# Altium integrated library Aryalib.IntLib: 119 symbols
Pins are listed as number, name and electrical type; pins without a type are passive.

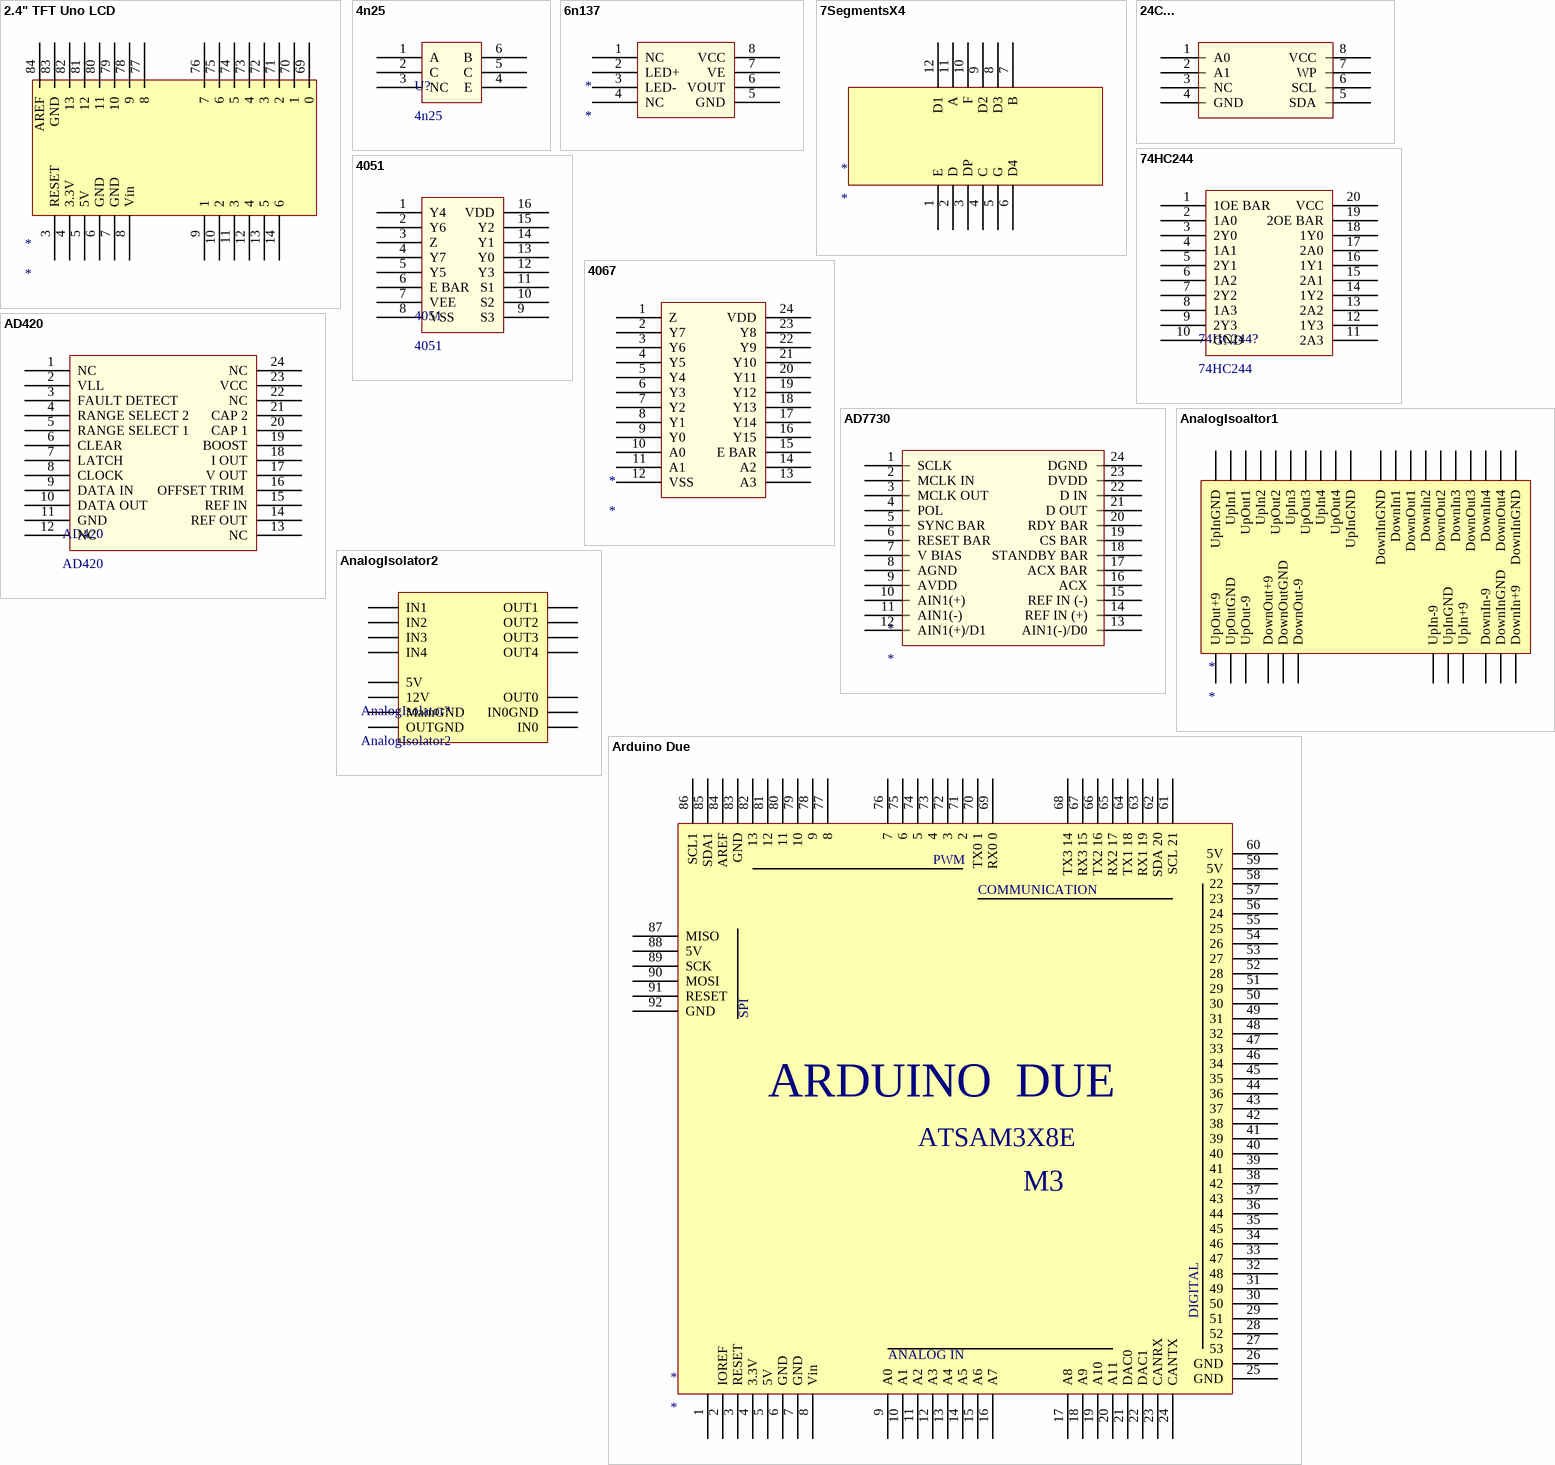
[diagram p0: symbols 2.4" TFT Uno LCD to Arduino Due]

## 2.4" TFT Uno LCD
designator *
footprint 2.4" TFT UNO LCD
pins: 3 RESET, 4 3.3V, 5 5V, 6 GND, 7 GND, 8 Vin, 9 1, 10 2, 11 3, 12 4, 13 5, 14 6, 69 0, 70 1, 71 2, 72 3, 73 4, 74 5, 75 6, 76 7, 77 8, 78 9, 79 10, 80 11, 81 12, 82 13, 83 GND, 84 AREF

## 4n25
designator U?
footprint PDIP6
pins: 1 A, 2 C, 3 NC, 4 E, 5 C, 6 B

## 6n137
designator *
footprint PDIP 8
pins: 1 NC, 2 LED+, 3 LED-, 4 NC, 5 GND, 6 VOUT, 7 VE, 8 VCC

## 7SegmentsX4
designator *
footprint 7SegmentsX4
pins: 1 E, 2 D, 3 DP, 4 C, 5 G, 6 D4, 7 B, 8 D3, 9 D2, 10 F, 11 A, 12 D1

## 24C...
designator ?  (value not drawn)
footprint SOIC 8
footprint PDIP 8
pins: 1 A0, 2 A1, 3 NC, 4 GND, 5 SDA, 6 SCL, 7 WP, 8 VCC

## 74HC244
designator 74HC244?
footprint PDIP 20
pins: 1 1OE BAR, 2 1A0, 3 2Y0, 4 1A1, 5 2Y1, 6 1A2, 7 2Y2, 8 1A3, 9 2Y3, 10 GND, 11 2A3, 12 1Y3, 13 2A2, 14 1Y2, 15 2A1, 16 1Y1, 17 2A0, 18 1Y0, 19 2OE BAR, 20 VCC

## 4051
designator 4051
footprint PDIP 16
pins: 1 Y4, 2 Y6, 3 Z, 4 Y7, 5 Y5, 6 E BAR, 7 VEE, 8 VSS, 9 S3, 10 S2, 11 S1, 12 Y3, 13 Y0, 14 Y1, 15 Y2, 16 VDD

## 4067
designator *
footprint PDIP 24 FAT
pins: 1 Z, 2 Y7, 3 Y6, 4 Y5, 5 Y4, 6 Y3, 7 Y2, 8 Y1, 9 Y0, 10 A0, 11 A1, 12 VSS, 13 A3, 14 A2, 15 E BAR, 16 Y15, 17 Y14, 18 Y13, 19 Y12, 20 Y11, 21 Y10, 22 Y9, 23 Y8, 24 VDD

## AD420
designator AD420
footprint PDIP 24
pins: 1 NC, 2 VLL, 3 FAULT DETECT, 4 RANGE SELECT 2, 5 RANGE SELECT 1, 6 CLEAR, 7 LATCH, 8 CLOCK, 9 DATA IN, 10 DATA OUT, 11 GND, 12 NC, 13 NC, 14 REF OUT, 15 REF IN, 16 OFFSET TRIM , 17 V OUT, 18 I OUT, 19 BOOST, 20 CAP 1, 21 CAP 2, 22 NC, 23 VCC, 24 NC

## AD7730
designator *
footprint PDIP 24
pins: 1 SCLK, 2 MCLK IN, 3 MCLK OUT, 4 POL, 5 SYNC BAR, 6 RESET BAR, 7 V BIAS, 8 AGND, 9 AVDD, 10 AIN1(+), 11 AIN1(-), 12 AIN1(+)/D1, 13 AIN1(-)/D0, 14 REF IN (+), 15 REF IN (-), 16 ACX, 17 ACX BAR, 18 STANDBY BAR, 19 CS BAR, 20 RDY BAR, 21 D OUT, 22 D IN, 23 DVDD, 24 DGND

## AnalogIsoaltor1
designator *
footprint AnalogIsolator1
pins: 1 UpInGND, 2 UpIn1, 3 UpOut1, 4 UpIn2, 5 UpOut2, 6 UpIn3, 7 UpOut3, 8 UpIn4, 9 UpOut4, 10 UpInGND, 11 DownInGND, 12 DownIn1, 13 DownOut1, 14 DownIn2, 15 DownOut2, 16 DownIn3, 17 DownOut3, 18 DownIn4, 19 DownOut4, 20 DownInGND, 21 UpOut+9, 22 UpOutGND, 23 UpOut-9, 24 DownOut+9, 25 DownOutGND, 26 DownOut-9, 27 UpIn-9, 28 UpInGND, 29 UpIn+9, 30 DownIn-9, 31 DownInGND, 32 DownIn+9

## AnalogIsolator2
designator AnalogIsolator?
footprint AnalogIsolator2
pins: 1 IN1, 2 OUT1, 3 IN2, 4 OUT2, 5 IN3, 6 OUT3, 7 IN4, 8 OUT4, 9 5V, 10 12V, 11 MainGND, 12 OUTGND, 25 OUT0, 26 IN0GND, 27 IN0

## Arduino Due
designator *
footprint ARDUINO DUE 1
footprint ARDUINO DUE 2
pins: 1, 2 IOREF, 3 RESET, 4 3.3V, 5 5V, 6 GND, 7 GND, 8 Vin, 9 A0, 10 A1, 11 A2, 12 A3, 13 A4, 14 A5, 15 A6, 16 A7, 17 A8, 18 A9, 19 A10, 20 A11, 21 DAC0, 22 DAC1, 23 CANRX, 24 CANTX, 25 GND, 26 GND, 27 53, 28 52, 29 51, 30 50, 31 49, 32 48, 33 47, 34 46, 35 45, 36 44, 37 43, 38 42, 39 41, 40, 41 39, 42 38, 43 37, 44 36, 45 35, 46 34, 47 33, 48 32, 49 31, 50 30, 51 29, 52 28, 53 27, 54 26, 55 25, 56 24, 57 23, 58 22, 59 5V, 60 5V, 61 SCL 21, 62 SDA 20, 63 RX1 19, 64 TX1 18, 65 RX2 17, 66 TX2 16, 67 RX3 15, 68 TX3 14, 69 RX0 0, 70 TX0 1, 71 2, 72 3, 73 4, 74 5, 75 6, 76 7, 77 8, 78 9, 79 10, 80 11, 81 12, 82 13, 83 GND, 84 AREF, 85 SDA1, 86 SCL1, 87 MISO, 88 5V, 89 SCK, 90 MOSI, 91 RESET, 92 GND
text: PWM; COMMUNICATION; SPI; ARDUINO  DUE; ATSAM3X8E; M3; DIGITAL; ANALOG IN

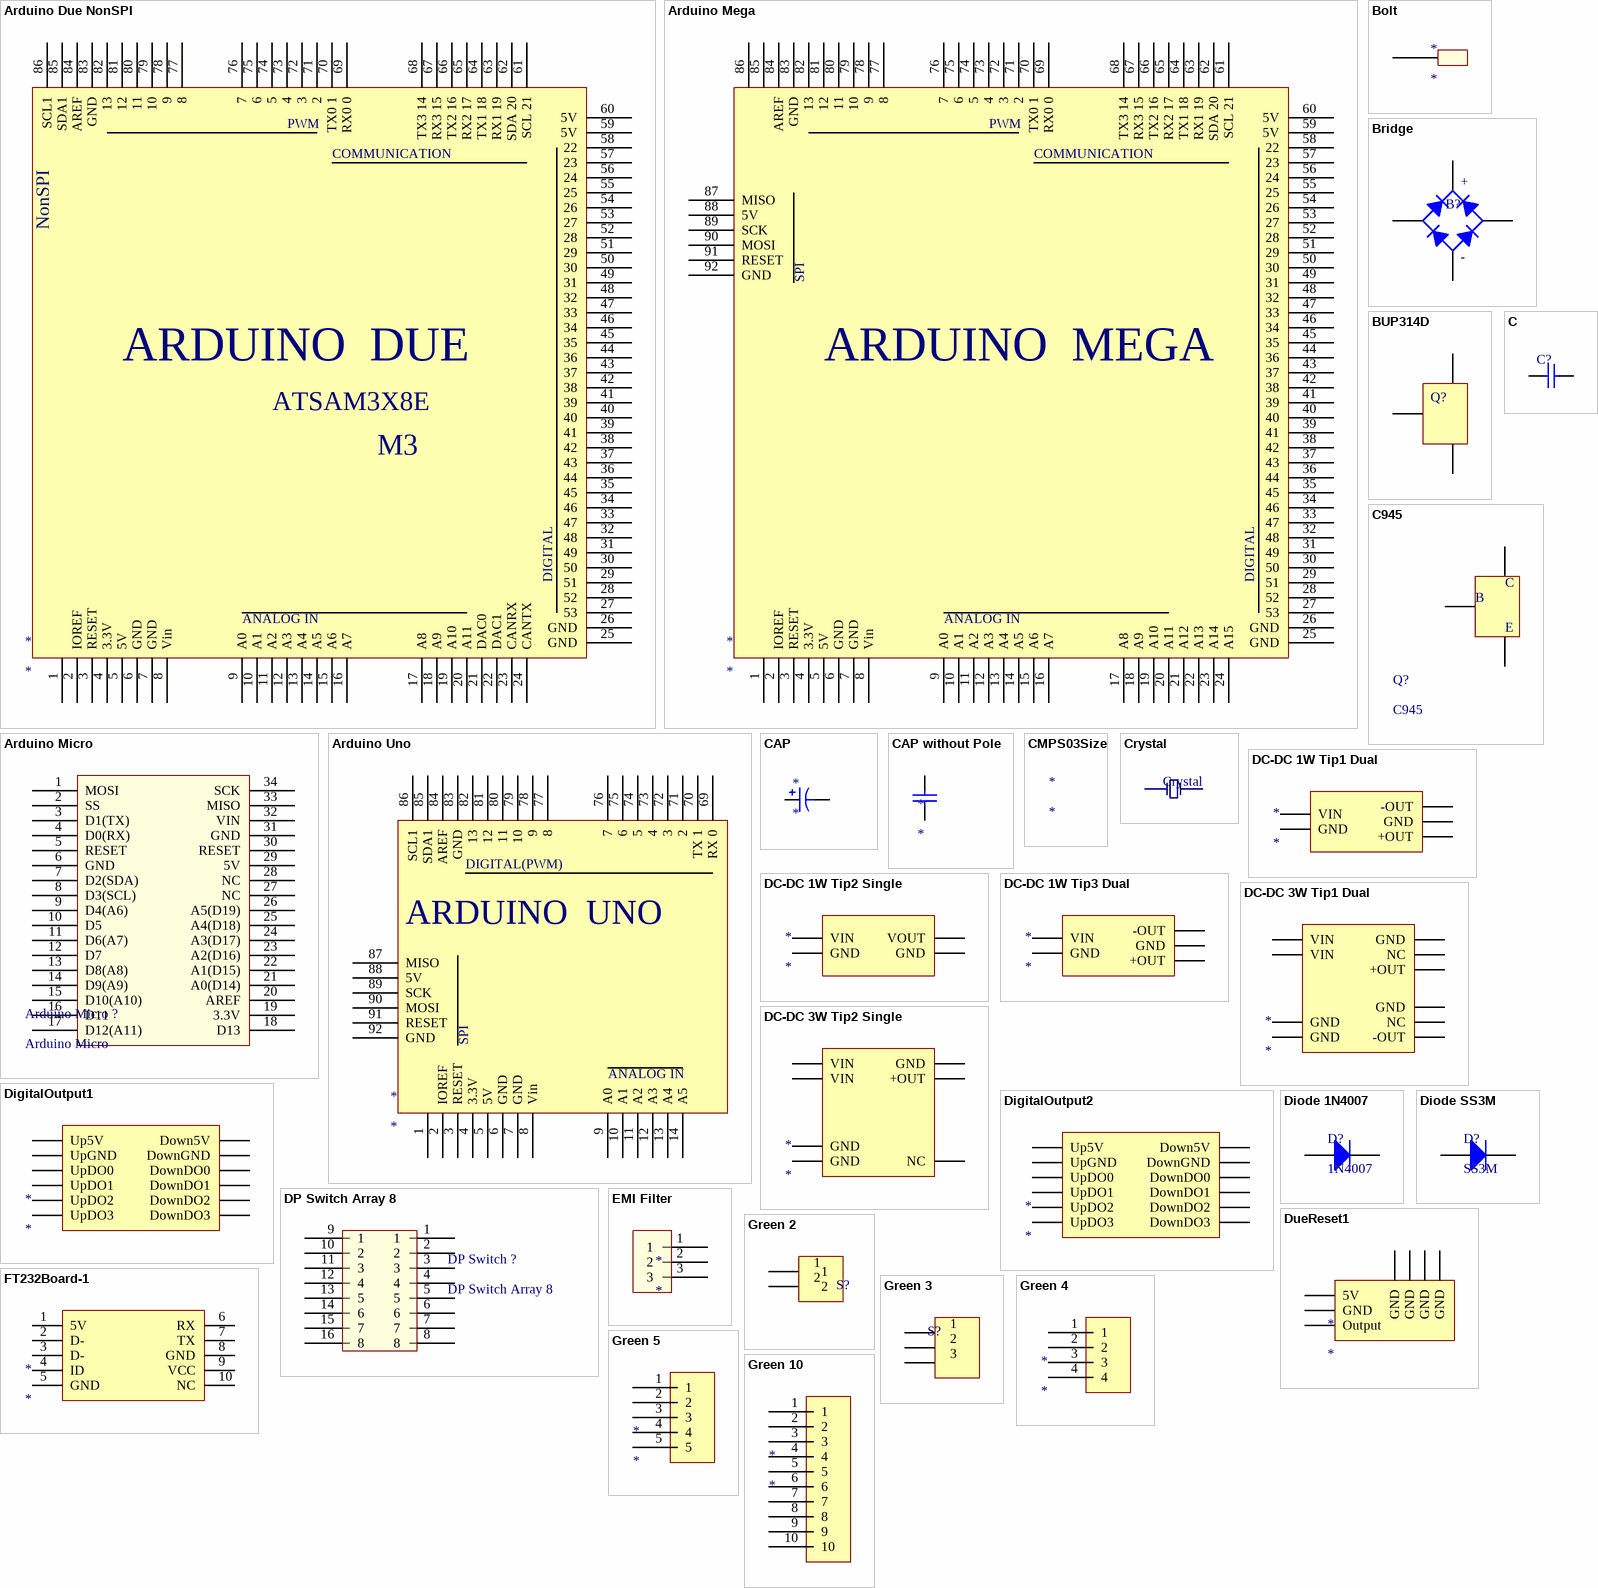
[diagram p1: symbols Arduino Due NonSPI to Green 10]

## Arduino Due NonSPI
designator *
footprint ARDUINO DUE 2 NONSPI
pins: 1, 2 IOREF, 3 RESET, 4 3.3V, 5 5V, 6 GND, 7 GND, 8 Vin, 9 A0, 10 A1, 11 A2, 12 A3, 13 A4, 14 A5, 15 A6, 16 A7, 17 A8, 18 A9, 19 A10, 20 A11, 21 DAC0, 22 DAC1, 23 CANRX, 24 CANTX, 25 GND, 26 GND, 27 53, 28 52, 29 51, 30 50, 31 49, 32 48, 33 47, 34 46, 35 45, 36 44, 37 43, 38 42, 39 41, 40, 41 39, 42 38, 43 37, 44 36, 45 35, 46 34, 47 33, 48 32, 49 31, 50 30, 51 29, 52 28, 53 27, 54 26, 55 25, 56 24, 57 23, 58 22, 59 5V, 60 5V, 61 SCL 21, 62 SDA 20, 63 RX1 19, 64 TX1 18, 65 RX2 17, 66 TX2 16, 67 RX3 15, 68 TX3 14, 69 RX0 0, 70 TX0 1, 71 2, 72 3, 73 4, 74 5, 75 6, 76 7, 77 8, 78 9, 79 10, 80 11, 81 12, 82 13, 83 GND, 84 AREF, 85 SDA1, 86 SCL1
text: PWM; COMMUNICATION; NonSPI; ARDUINO  DUE; ATSAM3X8E; M3; DIGITAL; ANALOG IN

## Arduino Mega
designator *
footprint ARDUINO MEGA 1
pins: 1, 2 IOREF, 3 RESET, 4 3.3V, 5 5V, 6 GND, 7 GND, 8 Vin, 9 A0, 10 A1, 11 A2, 12 A3, 13 A4, 14 A5, 15 A6, 16 A7, 17 A8, 18 A9, 19 A10, 20 A11, 21 A12, 22 A13, 23 A14, 24 A15, 25 GND, 26 GND, 27 53, 28 52, 29 51, 30 50, 31 49, 32 48, 33 47, 34 46, 35 45, 36 44, 37 43, 38 42, 39 41, 40, 41 39, 42 38, 43 37, 44 36, 45 35, 46 34, 47 33, 48 32, 49 31, 50 30, 51 29, 52 28, 53 27, 54 26, 55 25, 56 24, 57 23, 58 22, 59 5V, 60 5V, 61 SCL 21, 62 SDA 20, 63 RX1 19, 64 TX1 18, 65 RX2 17, 66 TX2 16, 67 RX3 15, 68 TX3 14, 69 RX0 0, 70 TX0 1, 71 2, 72 3, 73 4, 74 5, 75 6, 76 7, 77 8, 78 9, 79 10, 80 11, 81 12, 82 13, 83 GND, 84 AREF, 85, 86, 87 MISO, 88 5V, 89 SCK, 90 MOSI, 91 RESET, 92 GND
text: PWM; COMMUNICATION; SPI; ARDUINO  MEGA; DIGITAL; ANALOG IN

## Arduino Micro
designator Arduino Micro ?
footprint ARDUINO MICRO
pins: 1 MOSI, 2 SS, 3 D1(TX), 4 D0(RX), 5 RESET, 6 GND, 7 D2(SDA), 8 D3(SCL), 9 D4(A6), 10 D5, 11 D6(A7), 12 D7, 13 D8(A8), 14 D9(A9), 15 D10(A10), 16 D11, 17 D12(A11), 18 D13, 19 3.3V, 20 AREF, 21 A0(D14), 22 A1(D15), 23 A2(D16), 24 A3(D17), 25 A4(D18), 26 A5(D19), 27 NC, 28 NC, 29 5V, 30 RESET, 31 GND, 32 VIN, 33 MISO, 34 SCK

## Arduino Uno
designator *
footprint ARDUINO UNO 1
pins: 1, 2 IOREF, 3 RESET, 4 3.3V, 5 5V, 6 GND, 7 GND, 8 Vin, 9 A0, 10 A1, 11 A2, 12 A3, 13 A4, 14 A5, 69 RX 0, 70 TX 1, 71 2, 72 3, 73 4, 74 5, 75 6, 76 7, 77 8, 78 9, 79 10, 80 11, 81 12, 82 13, 83 GND, 84 AREF, 85 SDA1, 86 SCL1, 87 MISO, 88 5V, 89 SCK, 90 MOSI, 91 RESET, 92 GND
text: DIGITAL(PWM); ARDUINO  UNO; SPI; ANALOG IN

## Bolt
designator *
footprint BOLT-3.5-4.5
footprint BOLT-3.5-5
footprint BOLT-3.5-6
pins: 1

## Bridge
designator B?  (value not drawn)
footprint 5S
footprint MIC KBPC406 Bridge
footprint KBP210 Bridge
pins: 1, 2, 3, 4
text: +; -

## BUP314D
designator Q?  (value not drawn)
footprint TO-218
pins: 1, 2, 3

## C
designator C?  (value not drawn)
footprint C
pins: 1, 2

## C945
designator Q?
footprint TO-92 (BETTER)
footprint TO-92 (NORMAL)
pins: 1, 2, 3
text: C; B; E

## CAP
designator *
footprint 470UF-400V
footprint Cap-D13
footprint Cap-D10
footprint Cap-D16
footprint Cap D
pins: 1, 2

## CAP without Pole
designator *
footprint ADACI CAP
footprint SMD 1206
footprint SMD 805
footprint SMD 805 CAP
pins: 1, 2

## CMPS03Size
designator *
footprint CMPSSize

## Crystal
designator Crystal  (value not drawn)
footprint CRYSTAL - NORMAL
pins: 1, 2

## DC-DC 1W Tip1 Dual
designator *
footprint DC-DC-1W-Tip1
pins: 1 VIN, 2 GND, 4 -OUT, 5 GND, 6 +OUT

## DC-DC 1W Tip2 Single
designator *
footprint DC-DC-1W-Tip2
pins: 1 VIN, 2 GND, 5 GND, 7 VOUT

## DC-DC 1W Tip3 Dual
designator *
footprint DC-DC-1W-Tip3
pins: 1 VIN, 2 GND, 4 -OUT, 5 GND, 6 +OUT

## DC-DC 3W Tip1 Dual
designator *
footprint DC-DC-3W-Tip1
pins: 2 GND, 3 GND, 9 GND, 10 NC, 11 -OUT, 14 +OUT, 15 NC, 16 GND, 22 VIN, 23 VIN

## DC-DC 3W Tip2 Single
designator *
footprint DC-DC-3W-Tip2
pins: 2 GND, 3 GND, 11 NC, 14 +OUT, 16 GND, 22 VIN, 23 VIN

## DigitalOutput1
designator *
footprint DigitalOutput1
pins: 8 DownDO3, 9 DownDO2, 10 DownDO1, 11 DownDO0, 12 DownGND, 13 Down5V, 28 Up5V, 29 UpGND, 30 UpDO0, 31 UpDO1, 32 UpDO2, 33 UpDO3

## DigitalOutput2
designator *
footprint DigitalOutput2
pins: 8 DownDO3, 9 DownDO2, 10 DownDO1, 11 DownDO0, 12 DownGND, 13 Down5V, 28 Up5V, 29 UpGND, 30 UpDO0, 31 UpDO1, 32 UpDO2, 33 UpDO3

## Diode 1N4007
designator D?, comment 1N4007
footprint Diode 1N4007 Vertical
pins: 1, 2

## Diode SS3M
designator D?, comment SS3M
footprint SS3M(SMB)
pins: 1, 2

## DP Switch Array 8
designator DP Switch ?
footprint DP Switch Array 8
pins: 1, 2, 3, 4, 5, 6, 7, 8, 9 1, 10 2, 11 3, 12 4, 13 5, 14 6, 15 7, 16 8

## DueReset1
designator *
footprint DueReset1
pins: 1 5V, 2 GND, 3 Output, 4 GND, 5 GND, 6 GND, 7 GND

## EMI Filter
designator *
footprint EMI FILTER
pins: 1, 2, 3

## FT232Board-1
designator *
footprint FT232Board-1
pins: 1 5V, 2 D-, 3 D-, 4 ID, 5 GND, 6 RX, 7 TX, 8 GND, 9 VCC, 10 NC

## Green 2
designator S?
footprint GREEN 2
pins: 1, 2

## Green 3
designator S?  (value not drawn)
footprint GREEN 3
pins: 1, 2, 3

## Green 4
designator *
footprint GREEN 4
pins: 1, 2, 3, 4

## Green 5
designator *
footprint GREEN 5
pins: 1, 2, 3, 4, 5

## Green 10
designator *
footprint GREEN 10
pins: 1, 2, 3, 4, 5, 6, 7, 8, 9, 10

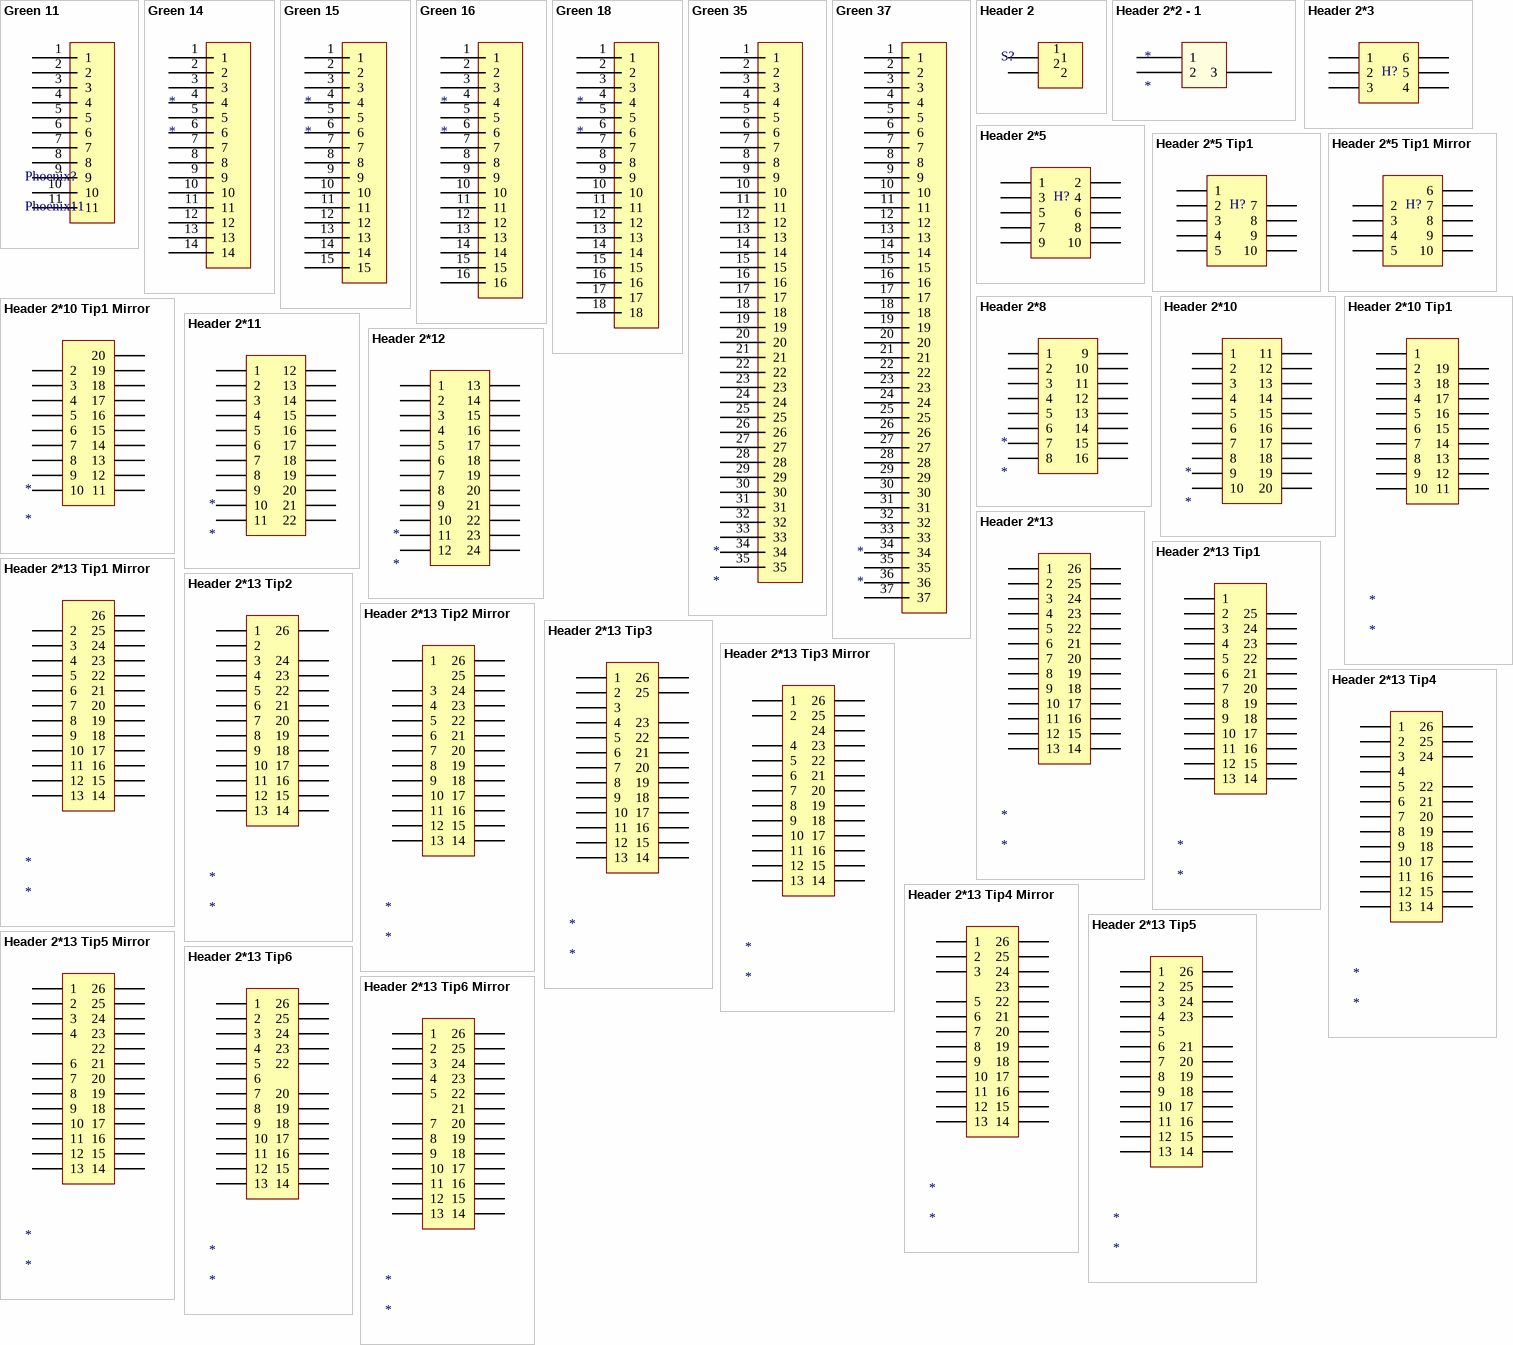
[diagram p2: symbols Green 11 to Header 2*13 Tip6 Mirror]

## Green 11
designator Phoenix?, comment Phoenix11
footprint GREEN 11
pins: 1, 2, 3, 4, 5, 6, 7, 8, 9, 10, 11

## Green 14
designator *
footprint GREEN 14
pins: 1, 2, 3, 4, 5, 6, 7, 8, 9, 10, 11, 12, 13, 14

## Green 15
designator *
footprint GREEN 15
pins: 1, 2, 3, 4, 5, 6, 7, 8, 9, 10, 11, 12, 13, 14, 15

## Green 16
designator *
footprint GREEN 16
pins: 1, 2, 3, 4, 5, 6, 7, 8, 9, 10, 11, 12, 13, 14, 15, 16

## Green 18
designator *
footprint GREEN 18
pins: 1, 2, 3, 4, 5, 6, 7, 8, 9, 10, 11, 12, 13, 14, 15, 16, 17, 18

## Green 35
designator *
footprint GREEN 35
pins: 1, 2, 3, 4, 5, 6, 7, 8, 9, 10, 11, 12, 13, 14, 15, 16, 17, 18, 19, 20, 21 "3", 22, 23, 24, 25, 26, 27, 28, 29, 30, 31, 32, 33, 34, 35

## Green 37
designator *
footprint GREEN 37
pins: 1, 2, 3, 4, 5, 6, 7, 8, 9, 10, 11, 12, 13, 14, 15, 16, 17, 18, 19, 20, 21 "3", 22, 23, 24, 25, 26, 27, 28, 29, 30, 31, 32, 33, 34, 35, 36, 37

## Header 2
designator S?  (value not drawn)
footprint HEADER 2
pins: 1, 2

## Header 2*2 - 1
designator *
footprint HEADER 2*2 - 1
pins: 1, 2, 3

## Header 2*3
designator H?  (value not drawn)
footprint HEADER 2*3
pins: 1, 2, 3, 4, 5, 6

## Header 2*5
designator H?  (value not drawn)
footprint HEADER 2*5 - 1
footprint HEADER 2*5 - 2
pins: 1, 2, 3, 4, 5, 6, 7, 8, 9, 10

## Header 2*5 Tip1
designator H?  (value not drawn)
footprint HEADER 2*5 Tip1
pins: 1, 2, 3, 4, 5, 7, 8, 9, 10

## Header 2*5 Tip1 Mirror
designator H?  (value not drawn)
footprint HEADER 2*5 Tip1 Mirror
pins: 2, 3, 4, 5, 6, 7, 8, 9, 10

## Header 2*8
designator *
footprint HEADER 2*8
pins: 1, 2, 3, 4, 5, 6, 7, 8, 9, 10, 11, 12, 13, 14, 15, 16

## Header 2*10
designator *
footprint HEADER 2*10
pins: 1, 2, 3, 4, 5, 6, 7, 8, 9, 10, 11, 12, 13, 14, 15, 16, 17, 18, 19, 20

## Header 2*10 Tip1
designator *
footprint HEADER 2*10 Tip1
pins: 1, 2, 3, 4, 5, 6, 7, 8, 9, 10, 11, 12, 13, 14, 15, 16, 17, 18, 19

## Header 2*10 Tip1 Mirror
designator *
footprint HEADER 2*10 Tip1 Mirror
pins: 2, 3, 4, 5, 6, 7, 8, 9, 10, 11, 12, 13, 14, 15, 16, 17, 18, 19, 20

## Header 2*11
designator *
footprint HEADER 2*11
pins: 1, 2, 3, 4, 5, 6, 7, 8, 9, 10, 11, 12, 13, 14, 15, 16, 17, 18, 19, 20, 21, 22

## Header 2*12
designator *
footprint HEADER 2*12
pins: 1, 2, 3, 4, 5, 6, 7, 8, 9, 10, 11, 12, 13, 14, 15, 16, 17, 18, 19, 20, 21, 22, 23, 24

## Header 2*13
designator *
footprint HEADER 2*13
pins: 1, 2, 3, 4, 5, 6, 7, 8, 9, 10, 11, 12, 13, 14, 15, 16, 17, 18, 19, 20, 21, 22, 23, 24, 25, 26

## Header 2*13 Tip1
designator *
footprint HEADER 2*13 Tip1
pins: 1, 2, 3, 4, 5, 6, 7, 8, 9, 10, 11, 12, 13, 14, 15, 16, 17, 18, 19, 20, 21, 22, 23, 24, 25

## Header 2*13 Tip1 Mirror
designator *
footprint HEADER 2*13 Tip1 Mirror
pins: 2, 3, 4, 5, 6, 7, 8, 9, 10, 11, 12, 13, 14, 15, 16, 17, 18, 19, 20, 21, 22, 23, 24, 25, 26

## Header 2*13 Tip2
designator *
footprint HEADER 2*13 Tip2
pins: 1, 2, 3, 4, 5, 6, 7, 8, 9, 10, 11, 12, 13, 14, 15, 16, 17, 18, 19, 20, 21, 22, 23, 24, 26

## Header 2*13 Tip2 Mirror
designator *
footprint HEADER 2*13 Tip2 Mirror
pins: 1, 3, 4, 5, 6, 7, 8, 9, 10, 11, 12, 13, 14, 15, 16, 17, 18, 19, 20, 21, 22, 23, 24, 25, 26

## Header 2*13 Tip3
designator *
footprint HEADER 2*13 Tip3
pins: 1, 2, 3, 4, 5, 6, 7, 8, 9, 10, 11, 12, 13, 14, 15, 16, 17, 18, 19, 20, 21, 22, 23, 25, 26

## Header 2*13 Tip3 Mirror
designator *
footprint HEADER 2*13 Tip3 Mirror
pins: 1, 2, 4, 5, 6, 7, 8, 9, 10, 11, 12, 13, 14, 15, 16, 17, 18, 19, 20, 21, 22, 23, 24, 25, 26

## Header 2*13 Tip4
designator *
footprint HEADER 2*13 Tip4
pins: 1, 2, 3, 4, 5, 6, 7, 8, 9, 10, 11, 12, 13, 14, 15, 16, 17, 18, 19, 20, 21, 22, 24, 25, 26

## Header 2*13 Tip4 Mirror
designator *
footprint HEADER 2*13 Tip4 Mirror
pins: 1, 2, 3, 5, 6, 7, 8, 9, 10, 11, 12, 13, 14, 15, 16, 17, 18, 19, 20, 21, 22, 23, 24, 25, 26

## Header 2*13 Tip5
designator *
footprint HEADER 2*13 Tip5
pins: 1, 2, 3, 4, 5, 6, 7, 8, 9, 10, 11, 12, 13, 14, 15, 16, 17, 18, 19, 20, 21, 23, 24, 25, 26

## Header 2*13 Tip5 Mirror
designator *
footprint HEADER 2*13 Tip5 Mirror
pins: 1, 2, 3, 4, 6, 7, 8, 9, 10, 11, 12, 13, 14, 15, 16, 17, 18, 19, 20, 21, 22, 23, 24, 25, 26

## Header 2*13 Tip6
designator *
footprint HEADER 2*13 Tip6
pins: 1, 2, 3, 4, 5, 6, 7, 8, 9, 10, 11, 12, 13, 14, 15, 16, 17, 18, 19, 20, 22, 23, 24, 25, 26

## Header 2*13 Tip6 Mirror
designator *
footprint HEADER 2*13 Tip6 Mirror
pins: 1, 2, 3, 4, 5, 7, 8, 9, 10, 11, 12, 13, 14, 15, 16, 17, 18, 19, 20, 21, 22, 23, 24, 25, 26

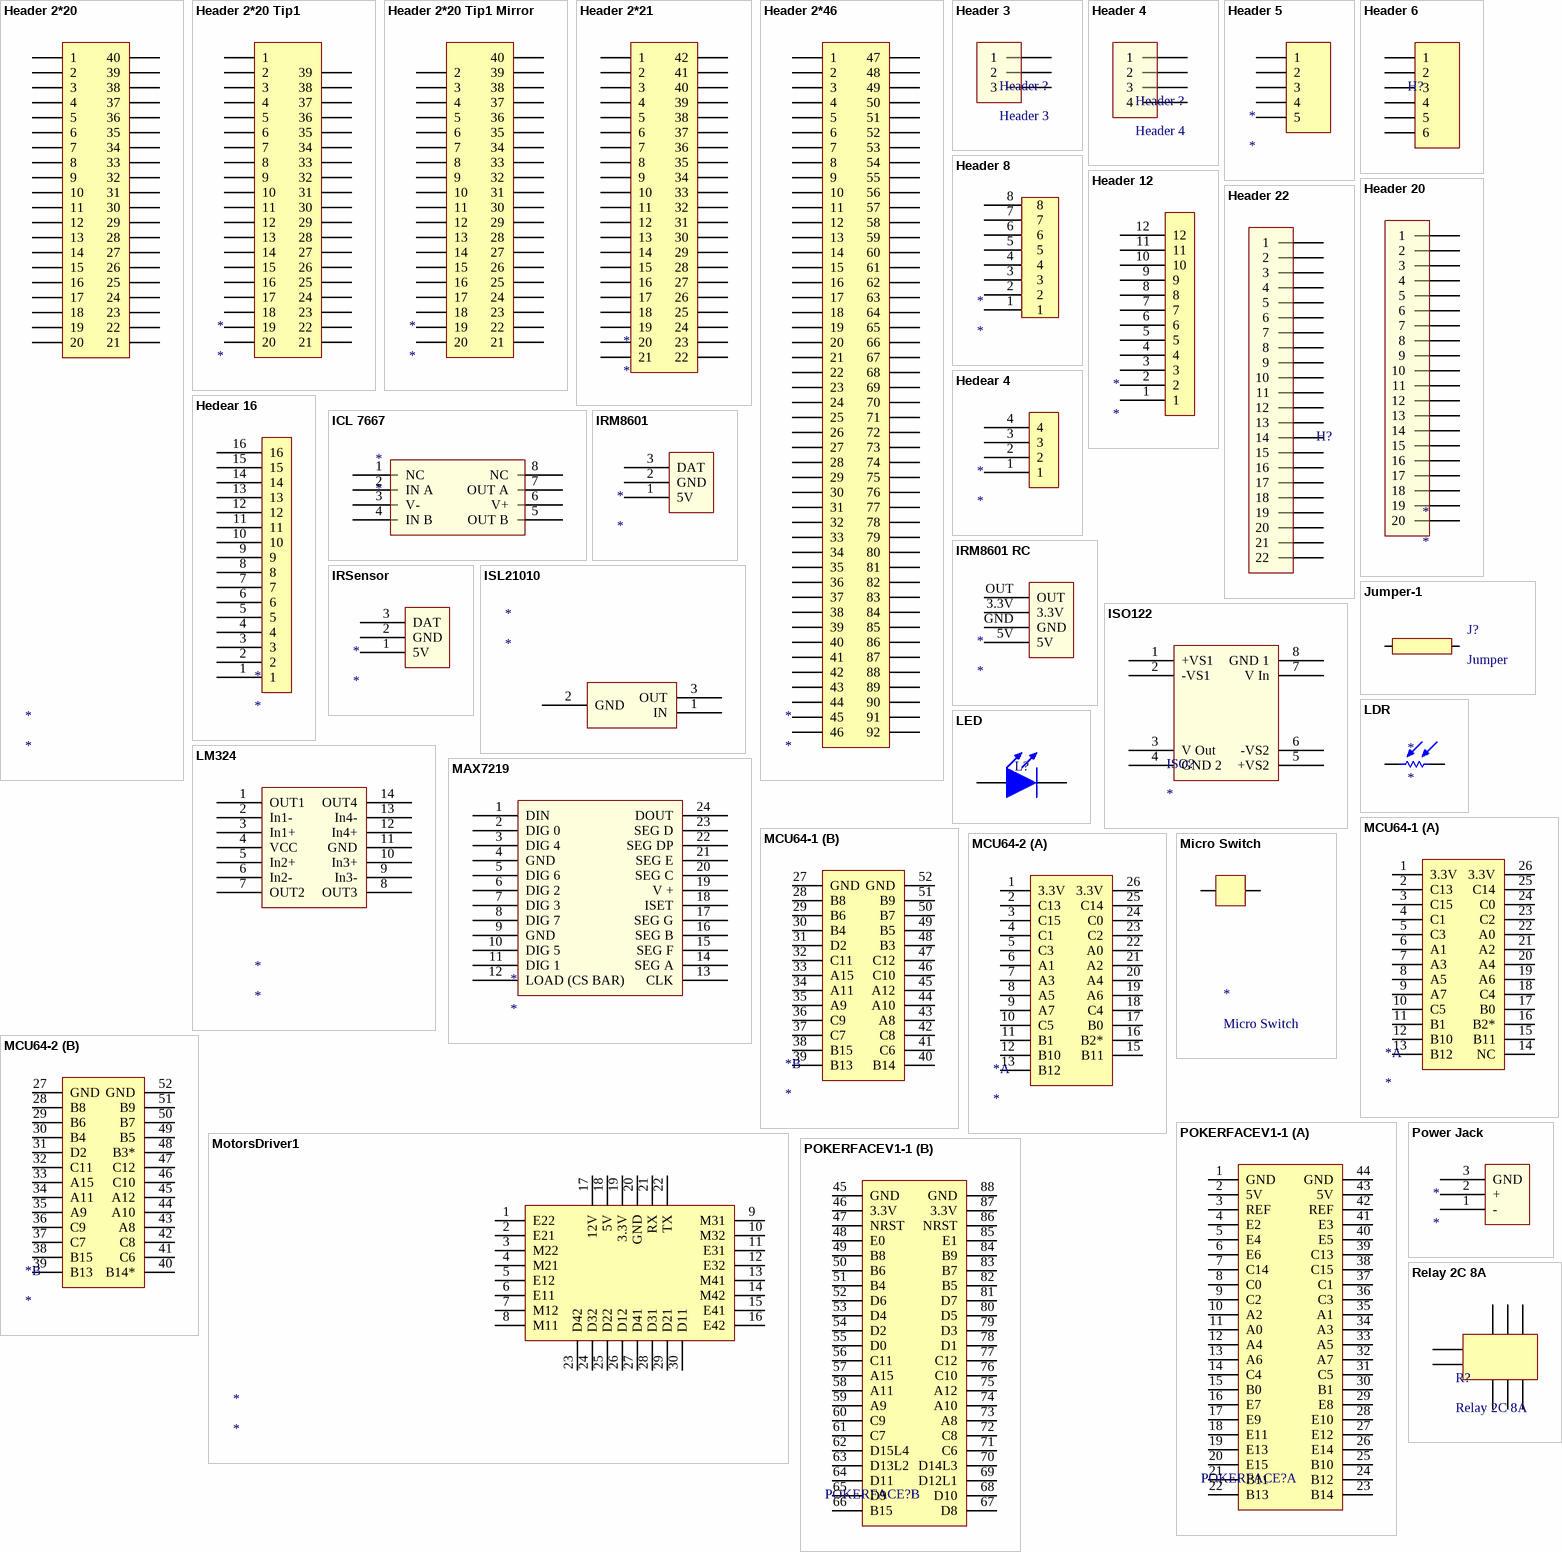
[diagram p3: symbols Header 2*20 to Relay 2C 8A]

## Header 2*20
designator *
footprint HEADER 2*20
pins: 1, 2, 3, 4, 5, 6, 7, 8, 9, 10, 11, 12, 13, 14, 15, 16, 17, 18, 19, 20, 21, 22, 23, 24, 25, 26, 27, 28, 29, 30, 31, 32, 33, 34, 35, 36, 37, 38, 39, 40

## Header 2*20 Tip1
designator *
footprint HEADER 2*20 Tip1
pins: 1, 2, 3, 4, 5, 6, 7, 8, 9, 10, 11, 12, 13, 14, 15, 16, 17, 18, 19, 20, 21, 22, 23, 24, 25, 26, 27, 28, 29, 30, 31, 32, 33, 34, 35, 36, 37, 38, 39

## Header 2*20 Tip1 Mirror
designator *
footprint HEADER 2*20 Tip1 Mirror
pins: 2, 3, 4, 5, 6, 7, 8, 9, 10, 11, 12, 13, 14, 15, 16, 17, 18, 19, 20, 21, 22, 23, 24, 25, 26, 27, 28, 29, 30, 31, 32, 33, 34, 35, 36, 37, 38, 39, 40

## Header 2*21
designator *
footprint HEADER 2*21
pins: 1, 2, 3, 4, 5, 6, 7, 8, 9, 10, 11, 12, 13, 14, 15, 16, 17, 18, 19, 20, 21, 22, 23, 24, 25, 26, 27, 28, 29, 30, 31, 32, 33, 34, 35, 36, 37, 38, 39, 40, 41, 42

## Header 2*46
designator *
footprint HEADER 2*46
pins: 1, 2, 3, 4, 5, 6, 7, 8, 9, 10, 11, 12, 13, 14, 15, 16, 17, 18, 19, 20, 21, 22, 23, 24, 25, 26, 27, 28, 29, 30, 31, 32, 33, 34, 35, 36, 37, 38, 39, 40, 41, 42, 43, 44, 45, 46, 47, 48, 49, 50, 51, 52, 53, 54, 55, 56, 57, 58, 59, 60, 61, 62, 63, 64, 65, 66, 67, 68, 69, 70, 71, 72, 73, 74, 75, 76, 77, 78, 79, 80, 81, 82, 83, 84, 85, 86, 87, 88, 89, 90, 91, 92

## Header 3
designator Header ?
footprint Header 3
pins: 1, 2, 3

## Header 4
designator Header ?
footprint HEADER 4
pins: 1, 2, 3, 4

## Header 5
designator *
footprint HEDAER 5
pins: 1, 2, 3, 4, 5

## Header 6
designator H?  (value not drawn)
footprint HEADER 6
pins: 1, 2, 3, 4, 5, 6

## Header 8
designator *
footprint HEADER 8
pins: 1, 2, 3, 4, 5, 6, 7, 8

## Header 12
designator *
footprint HEADER 12
pins: 1, 2, 3, 4, 5, 6, 7, 8, 9, 10, 11, 12

## Header 20
designator *
footprint HEADER 20
pins: 1, 2, 3, 4, 5, 6, 7, 8, 9, 10, 11, 12, 13, 14, 15, 16, 17, 18, 19, 20

## Header 22
designator H?  (value not drawn)
footprint HEADER 22
pins: 1, 2, 3, 4, 5, 6, 7, 8, 9, 10, 11, 12, 13, 14, 15, 16, 17, 18, 19, 20, 21, 22

## Hedear 4
designator *
footprint HEADER 4
pins: 1, 2, 3, 4

## Hedear 16
designator *
footprint HEDEAR 16
pins: 1, 2, 3, 4, 5, 6, 7, 8, 9, 10, 11, 12, 13, 14, 15, 16

## ICL 7667
designator *
footprint SOIC 8
footprint PDIP 8
pins: 1 NC, 2 IN A, 3 V-, 4 IN B, 5 OUT B, 6 V+, 7 OUT A, 8 NC

## IRM8601
designator *
footprint IRM8601
pins: 1 5V, 2 GND, 3 DAT

## IRM8601 RC
designator *
footprint IRM8601 RC
pins: 3.3V, 5V, GND, OUT

## IRSensor
designator *
footprint IRSensor
footprint IRSensor2
pins: 1 5V, 2 GND, 3 DAT

## ISL21010
designator *
footprint SOT-23
pins: 1 IN, 2 GND, 3 OUT

## ISO122
designator ISO?
footprint PDIP 16*
pins: 1 +VS1, 2 -VS1, 3 V Out, 4 GND 2, 5 +VS2, 6 -VS2, 7 V In, 8 GND 1

## Jumper-1
designator J?, comment Jumper
footprint HEADER 2
pins: 1, 2

## LDR
designator *
footprint LDR
pins: 1, 2

## LED
designator L?  (value not drawn)
footprint LED VERY LARGE
footprint LED SMD
footprint LED SMALL
footprint LED LARGE
pins: 1, 2

## LM324
designator *
footprint PDIP14
pins: 1 OUT1, 2 In1-, 3 In1+, 4 VCC, 5 In2+, 6 In2-, 7 OUT2, 8 OUT3, 9 In3-, 10 In3+, 11 GND, 12 In4+, 13 In4-, 14 OUT4

## MAX7219
designator *
footprint PDIP 24
pins: 1 DIN, 2 DIG 0, 3 DIG 4, 4 GND, 5 DIG 6, 6 DIG 2, 7 DIG 3, 8 DIG 7, 9 GND, 10 DIG 5, 11 DIG 1, 12 LOAD (CS BAR), 13 CLK, 14 SEG A, 15 SEG F, 16 SEG B, 17 SEG G, 18 ISET, 19 V +, 20 SEG C, 21 SEG E, 22 SEG DP, 23 SEG D, 24 DOUT

## MCU64-1
designator *
footprint MCU64-1
footprint MCU64-1-Simple
part A pins: 1 3.3V, 2 C13, 3 C15, 4 C1, 5 C3, 6 A1, 7 A3, 8 A5, 9 A7, 10 C5, 11 B1, 12 B10, 13 B12, 14 NC, 15 B11, 16 B2*, 17 B0, 18 C4, 19 A6, 20 A4, 21 A2, 22 A0, 23 C2, 24 C0, 25 C14, 26 3.3V
part B pins: 27 GND, 28 B8, 29 B6, 30 B4, 31 D2, 32 C11, 33 A15, 34 A11, 35 A9, 36 C9, 37 C7, 38 B15, 39 B13, 40 B14, 41 C6, 42 C8, 43 A8, 44 A10, 45 A12, 46 C10, 47 C12, 48 B3, 49 B5, 50 B7, 51 B9, 52 GND

## MCU64-2
designator *
footprint MCU64-2
part A pins: 1 3.3V, 2 C13, 3 C15, 4 C1, 5 C3, 6 A1, 7 A3, 8 A5, 9 A7, 10 C5, 11 B1, 12 B10, 13 B12, 15 B11, 16 B2*, 17 B0, 18 C4, 19 A6, 20 A4, 21 A2, 22 A0, 23 C2, 24 C0, 25 C14, 26 3.3V
part B pins: 27 GND, 28 B8, 29 B6, 30 B4, 31 D2, 32 C11, 33 A15, 34 A11, 35 A9, 36 C9, 37 C7, 38 B15, 39 B13, 40 B14*, 41 C6, 42 C8, 43 A8, 44 A10, 45 A12, 46 C10, 47 C12, 48 B3*, 49 B5, 50 B7, 51 B9, 52 GND

## Micro Switch
designator *
footprint MICRO SWITCH (NORMAL)
pins: 1, 2

## MotorsDriver1
designator *
footprint MotorsDriver
pins: 1 E22, 2 E21, 3 M22, 4 M21, 5 E12, 6 E11, 7 M12, 8 M11, 9 M31, 10 M32, 11 E31, 12 E32, 13 M41, 14 M42, 15 E41, 16 E42, 17 12V, 18 5V, 19 3.3V, 20 GND, 21 RX, 22 TX, 23 D42, 24 D32, 25 D22, 26 D12, 27 D41, 28 D31, 29 D21, 30 D11

## POKERFACEV1-1
designator POKERFACE?
footprint PokerFaceV1-1
part A pins: 1 GND, 2 5V, 3 REF, 4 E2, 5 E4, 6 E6, 7 C14, 8 C0, 9 C2, 10 A2, 11 A0, 12 A4, 13 A6, 14 C4, 15 B0, 16 E7, 17 E9, 18 E11, 19 E13, 20 E15, 21 B11, 22 B13, 23 B14, 24 B12, 25 B10, 26 E14, 27 E12, 28 E10, 29 E8, 30 B1, 31 C5, 32 A7, 33 A5, 34 A3, 35 A1, 36 C3, 37 C1, 38 C15, 39 C13, 40 E5, 41 E3, 42 REF, 43 5V, 44 GND
part B pins: 45 GND, 46 3.3V, 47 NRST, 48 E0, 49 B8, 50 B6, 51 B4, 52 D6, 53 D4, 54 D2, 55 D0, 56 C11, 57 A15, 58 A11, 59 A9, 60 C9, 61 C7, 62 D15L4, 63 D13L2, 64 D11, 65 D9, 66 B15, 67 D8, 68 D10, 69 D12L1, 70 D14L3, 71 C6, 72 C8, 73 A8, 74 A10, 75 A12, 76 C10, 77 C12, 78 D1, 79 D3, 80 D5, 81 D7, 82 B5, 83 B7, 84 B9, 85 E1, 86 NRST, 87 3.3V, 88 GND

## Power Jack
designator *
footprint POWER JACK
pins: 1 -, 2 +, 3 GND

## Relay 2C 8A
designator R?
footprint REALY 2c 8A
pins: 1, 2, 3, 4, 5, 6, 7, 8

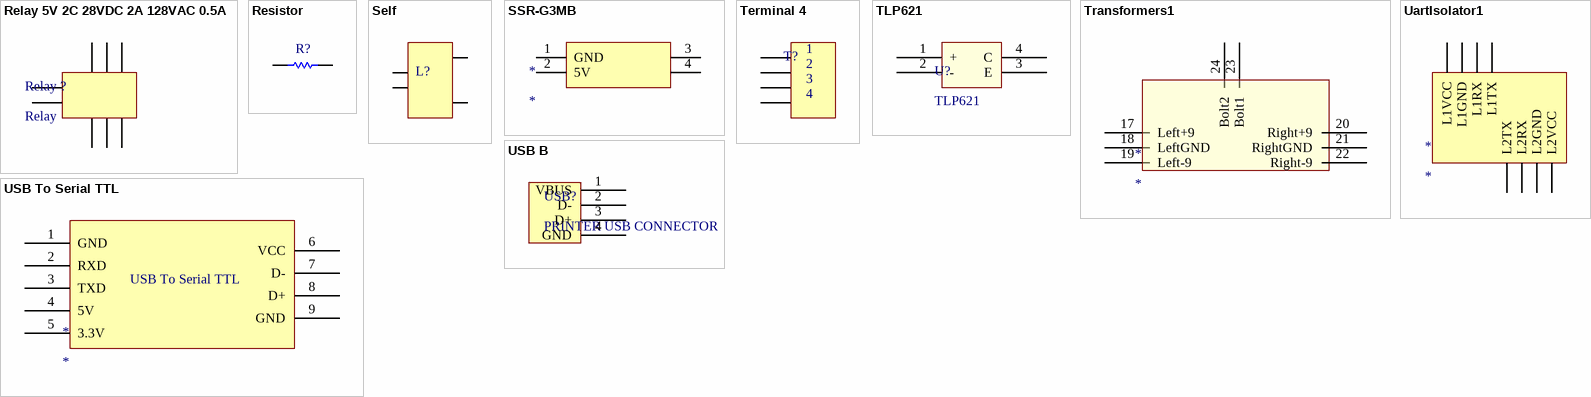
[diagram p4: symbols Relay 5V 2C 28VDC 2A 128VAC 0.5A to USB To Serial TTL]

## Relay 5V 2C 28VDC 2A 128VAC 0.5A
designator Relay ?, comment Relay
footprint RELAY 5V 2C 28VDC 2A 128VAC 0.5A
pins: 1, 2, 3, 4, 5, 6, 7, 8

## Resistor
designator R?
footprint SMD 1206
footprint SMD 805
footprint NORMAL RESISTOR (Axial Device, Thru-Hole; 2 Leads; 0.3 in Pin Spacing)
pins: 1, 2

## Self
designator L?, comment Dual Self  (value not drawn)
footprint Self
pins: 1, 2, 3, 4

## SSR-G3MB
designator *
footprint SSR-G3MB
pins: 1 GND, 2 5V, 3, 4

## Terminal 4
designator T?  (value not drawn)
footprint Terminal 4
pins: 1, 2, 3, 4

## TLP621
designator U?
footprint PDIP4
pins: 1 +, 2 -, 3 E, 4 C

## Transformers1
designator *
footprint Transformers1
pins: 17 Left+9, 18 LeftGND, 19 Left-9, 20 Right+9, 21 RightGND, 22 Right-9, 23 Bolt1, 24 Bolt2

## UartIsolator1
designator *
footprint UasrtIsolator1
pins: 1 L1VCC, 2 L1GND, 3 L1RX, 4 L1TX, 5 L2TX, 6 L2RX, 7 L2GND, 8 L2VCC

## USB B
designator USB?, comment PRINTER USB CONNECTOR
footprint USB B
pins: 1 VBUS, 2 D-, 3 D+, 4 GND

## USB To Serial TTL
designator *
footprint USB TO SERIAL TTL
pins: 1 GND, 2 RXD, 3 TXD, 4 5V, 5 3.3V, 6 VCC, 7 D-, 8 D+, 9 GND